# Altium schematic symbol library Schlib.SchLib: 18 symbols
Pins are listed as number, name and electrical type; pins without a type are passive.

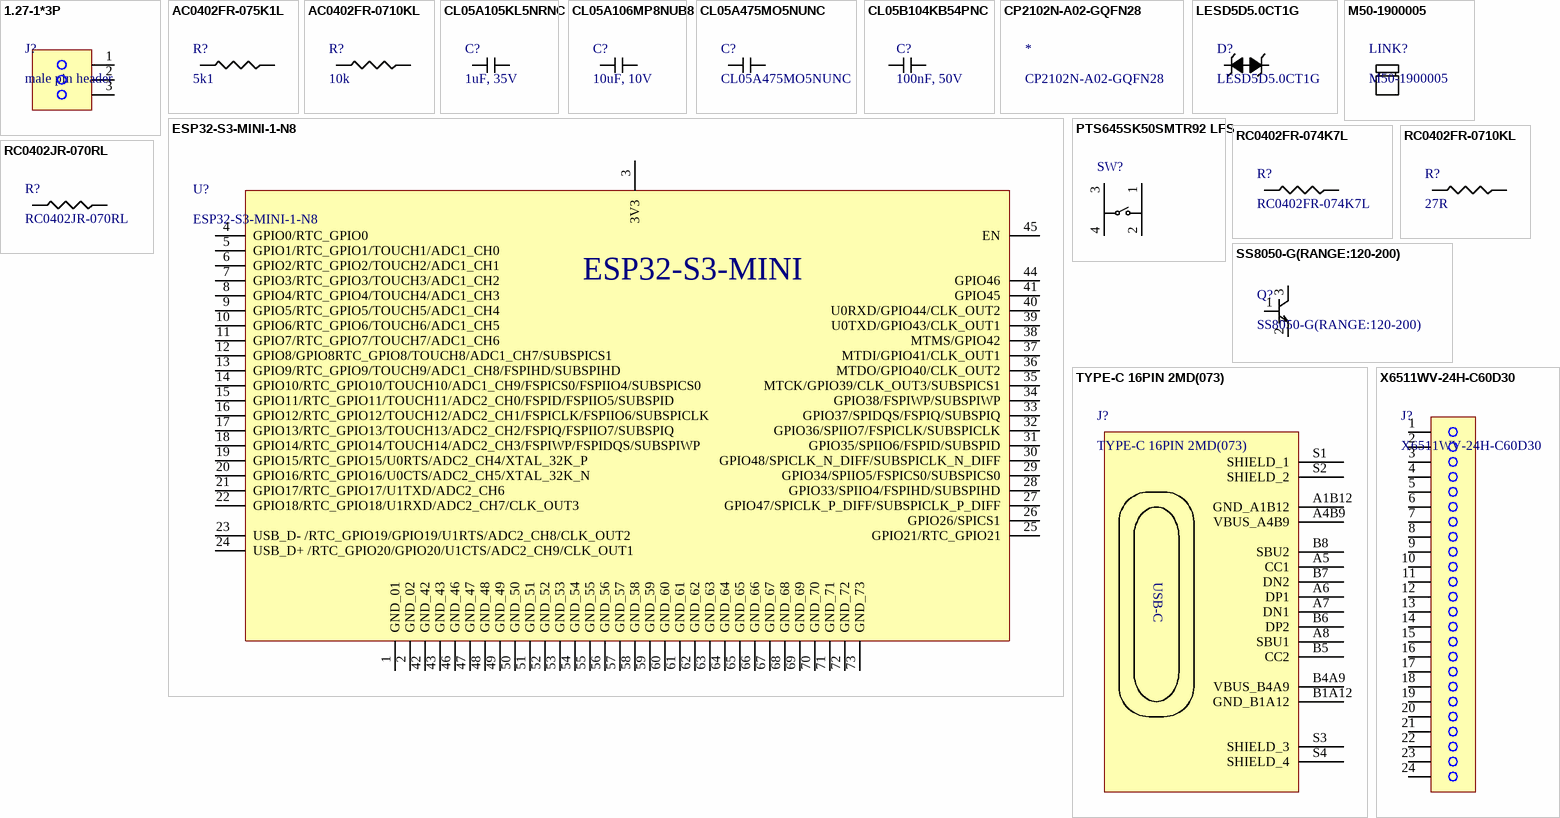
[diagram p0: symbols 1.27-1*3P to X6511WV-24H-C60D30]

## 1.27-1*3P
designator J?, comment male pin header
3A Direct Insert Policy 1mm 3P 3mm -55℃~+105℃ 2.3mm 1.27mm Single Row Black Brass 1x3P Plugin,P=1.27mm Pin Headers ROHS; Manufacturer: BOOMELE(Boom Precision Elec); Manufacturer Part Number: 1.27-1*3P; Supplier: LCSC; Supplier Part Number: C24980
pins: 1, 2, 3

## AC0402FR-075K1L
designator R?, comment 5k1
RES SMD 5.1K OHM 1% 1/16W 0402; Manufacturer: YAGEO; Manufacturer Part Number: AC0402FR-075K1L; Supplier: LCSC; Supplier Part Number: C144745; ComponentLink1Description: Datasheet; ComponentLink1URL: https://www.lcsc.com/datasheet/lcsc_datasheet_2304140030_YAGEO-AC0402FR-075K1L_C144745.pdf
pins: 1, 2

## AC0402FR-0710KL
designator R?, comment 10k
10 kOhms ±1% 0.063W, 1/16W Chip Resistor 0402 (1005 Metric) Automotive AEC-Q200, Moisture Resistant Thick Film; Manufacturer: YAGEO; Manufacturer Part Number: AC0402FR-0710KL; Supplier: LCSC; Supplier Part Number: C144807
pins: 1, 2

## CL05A105KL5NRNC
designator C?, comment 1uF, 35V
CAP CER 1UF 35V X5R 0402; Manufacturer: Samsung; Manufacturer Part Number: CL05A105KL5NRNC; ComponentLink1URL: https://datasheet.ciiva.com:443/pdfs/VipMasterIC/IC/SEMS/SEMS-S-A0008384515/SEMS-S-A0008872905-1.pdf?src-supplier=IHS+Markit; ComponentLink1Description: https://datasheet.ciiva.com:443/pdfs/VipMasterIC/IC/SEMS/SEMS-S-A0008384515/SEMS-S-A0008872905-1.pdf?src-supplier=IHS+Markit; ComponentLink2URL: http://www.samsungsem.com/kr/support/product-search/mlcc/CL05A105KL5NRNC.jsp?src-supplier=Digikey; ComponentLink2Description: http://www.samsungsem.com/kr/support/product-search/mlcc/CL05A105KL5NRNC.jsp?src-supplier=Digikey; Supplier: LCSC; Supplier Part Number: C307413
pins: 1, 2

## CL05A106MP8NUB8
designator C?, comment 10uF, 10V
CAP CER 10UF 10V X5R 0402; Manufacturer: Samsung; Manufacturer Part Number: CL05A106MP8NUB8; ComponentLink1URL: https://datasheet.ciiva.com:443/pdfs/VipMasterIC/IC/SEMS/SEMS-S-A0008521219/SEMS-S-A0008521325-1.pdf?src-supplier=IHS+Markit; ComponentLink1Description: https://datasheet.ciiva.com:443/pdfs/VipMasterIC/IC/SEMS/SEMS-S-A0008521219/SEMS-S-A0008521325-1.pdf?src-supplier=IHS+Markit; ComponentLink2URL: http://www.samsungsem.com/kr/support/product-search/mlcc/CL05A106MP8NUB8.jsp?src-supplier=Digikey; ComponentLink2Description: http://www.samsungsem.com/kr/support/product-search/mlcc/CL05A106MP8NUB8.jsp?src-supplier=Digikey; ComponentLink3URL: https://datasheet.octopart.com/CL05A106MP8NUB8-Samsung-Electro-Mechanics-datasheet-136460857.pdf?src-supplier=Future+Electronics; ComponentLink3Description: https://datasheet.octopart.com/CL05A106MP8NUB8-Samsung-Electro-Mechanics-datasheet-136460857.pdf?src-supplier=Future+Electronics; Supplier: LCSC; Supplier Part Number: C307415
pins: 1, 2

## CL05A475MO5NUNC
designator C?
CAP CER 4.7UF 16V X5R 0402; Manufacturer: Samsung Electro-Mechanics; Manufacturer Part Number: CL05A475MO5NUNC; Supplier: LCSC; Supplier Part Number: C318563; ComponentLink1Description: Datasheet; ComponentLink1URL: https://mm.digikey.com/Volume0/opasdata/d220001/medias/docus/2822/CL05A475MO5NUNC_Spec.pdf
pins: 1, 2

## CL05B104KB54PNC
designator C?, comment 100nF, 50V
CAP CER 0.1UF 50V X7R 0402; Manufacturer: Samsung; Manufacturer Part Number: CL05B104KB54PNC; ComponentLink1URL: https://datasheet.ciiva.com:443/pdfs/VipMasterIC/IC/SEMS/SEMS-S-A0006318249/SEMS-S-A0006320959-1.pdf?src-supplier=IHS+Markit; ComponentLink1Description: https://datasheet.ciiva.com:443/pdfs/VipMasterIC/IC/SEMS/SEMS-S-A0006318249/SEMS-S-A0006320959-1.pdf?src-supplier=IHS+Markit; ComponentLink2URL: https://datasheet.octopart.com/CL05B104KB54PNC-Samsung-datasheet-8326407.pdf?src-supplier=TME; ComponentLink2Description: https://datasheet.octopart.com/CL05B104KB54PNC-Samsung-datasheet-8326407.pdf?src-supplier=TME; Supplier: LCSC; Supplier Part Number: C307331
pins: 1, 2

## CP2102N-A02-GQFN28
designator *
Manufacturer: Silicon Labs; Manufacturer Part Number: CP2102N-A02-GQFN28; Supplier: LCSC; Supplier Part Number: C1550553; ComponentLink1Description: Datasheet; ComponentLink1URL: https://www.lcsc.com/datasheet/lcsc_datasheet_2107300130_SKYWORKS-SILICON-LABS-CP2102N-A02-GQFN28_C1550553.pdf

## ESP32-S3-MINI-1-N8
designator U?
SMD module, ESP32-S3FN8, 8 MB SPI flash, PCB antenna; Manufacturer: Espressif Systems; Supllier Part Number: C2913206; Manufacturer Part Number: ESP32-S3-MINI-1-N8; ComponentLink1URL: https://datasheet.octopart.com/ESP32-S3-MINI-1-N8-Espressif-Systems-datasheet-165560562.pdf?src-supplier=TME; ComponentLink1Description: https://datasheet.octopart.com/ESP32-S3-MINI-1-N8-Espressif-Systems-datasheet-165560562.pdf?src-supplier=TME; Supplier: LCSC
pins: 1 GND_01, 2 GND_02, 3 3V3, 4 GPIO0/RTC_GPIO0, 5 GPIO1/RTC_GPIO1/TOUCH1/ADC1_CH0, 6 GPIO2/RTC_GPIO2/TOUCH2/ADC1_CH1, 7 GPIO3/RTC_GPIO3/TOUCH3/ADC1_CH2, 8 GPIO4/RTC_GPIO4/TOUCH4/ADC1_CH3, 9 GPIO5/RTC_GPIO5/TOUCH5/ADC1_CH4, 10 GPIO6/RTC_GPIO6/TOUCH6/ADC1_CH5, 11 GPIO7/RTC_GPIO7/TOUCH7/ADC1_CH6, 12 GPIO8/GPIO8RTC_GPIO8/TOUCH8/ADC1_CH7/SUBSPICS1, 13 GPIO9/RTC_GPIO9/TOUCH9/ADC1_CH8/FSPIHD/SUBSPIHD, 14 GPIO10/RTC_GPIO10/TOUCH10/ADC1_CH9/FSPICS0/FSPIIO4/SUBSPICS0, 15 GPIO11/RTC_GPIO11/TOUCH11/ADC2_CH0/FSPID/FSPIIO5/SUBSPID, 16 GPIO12/RTC_GPIO12/TOUCH12/ADC2_CH1/FSPICLK/FSPIIO6/SUBSPICLK, 17 GPIO13/RTC_GPIO13/TOUCH13/ADC2_CH2/FSPIQ/FSPIIO7/SUBSPIQ, 18 GPIO14/RTC_GPIO14/TOUCH14/ADC2_CH3/FSPIWP/FSPIDQS/SUBSPIWP, 19 GPIO15/RTC_GPIO15/U0RTS/ADC2_CH4/XTAL_32K_P, 20 GPIO16/RTC_GPIO16/U0CTS/ADC2_CH5/XTAL_32K_N, 21 GPIO17/RTC_GPIO17/U1TXD/ADC2_CH6, 22 GPIO18/RTC_GPIO18/U1RXD/ADC2_CH7/CLK_OUT3, 23 USB_D- /RTC_GPIO19/GPIO19/U1RTS/ADC2_CH8/CLK_OUT2, 24 USB_D+ /RTC_GPIO20/GPIO20/U1CTS/ADC2_CH9/CLK_OUT1, 25 GPIO21/RTC_GPIO21, 26 GPIO26/SPICS1, 27 GPIO47/SPICLK_P_DIFF/SUBSPICLK_P_DIFF, 28 GPIO33/SPIIO4/FSPIHD/SUBSPIHD, 29 GPIO34/SPIIO5/FSPICS0/SUBSPICS0, 30 GPIO48/SPICLK_N_DIFF/SUBSPICLK_N_DIFF, 31 GPIO35/SPIIO6/FSPID/SUBSPID, 32 GPIO36/SPIIO7/FSPICLK/SUBSPICLK, 33 GPIO37/SPIDQS/FSPIQ/SUBSPIQ, 34 GPIO38/FSPIWP/SUBSPIWP, 35 MTCK/GPIO39/CLK_OUT3/SUBSPICS1, 36 MTDO/GPIO40/CLK_OUT2, 37 MTDI/GPIO41/CLK_OUT1, 38 MTMS/GPIO42, 39 U0TXD/GPIO43/CLK_OUT1, 40 U0RXD/GPIO44/CLK_OUT2, 41 GPIO45, 42 GND_42, 43 GND_43, 44 GPIO46, 45 EN, 46 GND_46, 47 GND_47, 48 GND_48, 49 GND_49, 50 GND_50, 51 GND_51, 52 GND_52, 53 GND_53, 54 GND_54, 55 GND_55, 56 GND_56, 57 GND_57, 58 GND_58, 59 GND_59, 60 GND_60, 61 GND_61, 62 GND_62, 63 GND_63, 64 GND_64, 65 GND_65, 66 GND_66, 67 GND_67, 68 GND_68, 69 GND_69, 70 GND_70, 71 GND_71, 72 GND_72, 73 GND_73
text: ESP32-S3-MINI

## LESD5D5.0CT1G
designator D?
9.4A 18.6V 5.6V Bidirectional 5V SOD-523 ESD and Surge Protection (TVS/ESD) ROHS; Manufacturer: LRC; Manufacturer Part Number: LESD5D5.0CT1G; Supplier: LCSC; Supplier Part Number: C383211; ComponentLink1Description: Datasheet; ComponentLink1URL: https://www.lcsc.com/datasheet/lcsc_datasheet_1912111437_LRC-LESD5D5-0CT1G_C383211.pdf
pins: 1, 2

## M50-1900005
designator LINK?
2 (1 x 2) Position Shunt Connector Black Closed Top 0.050" (1.27mm) Gold; Manufacturer: Harwin Inc.; Manufacturer Part Number: M50-1900005; Supplier: LCSC; Supplier Part Number: C6293276; ComponentLink1Description: Datasheet; ComponentLink1URL: https://www.lcsc.com/datasheet/lcsc_datasheet_2312100117_Harwin-M50-1900005_C6293276.pdf

## PTS645SK50SMTR92 LFS
designator SW?, comment Push Button  (value not drawn)
SWITCH TACTILE SPST-NO 0.05A 12V; Manufacturer: C&K; Manufacturer Part Number: PTS645SK50SMTR92 LFS; Supplier: LCSC; Supplier Part Number: C221872
pins: 1, 2, 3, 4

## RC0402FR-074K7L
designator R?
RES 4.7K OHM 1% 1/16W 0402; Manufacturer: YAGEO; Manufacturer Part Number: RC0402FR-074K7L; Supplier: LCSC; Supplier Part Number: C105871; ComponentLink1Description: Datasheet; ComponentLink1URL: https://www.lcsc.com/datasheet/lcsc_datasheet_2304140030_YAGEO-RC0402FR-074K7L_C105871.pdf
pins: 1, 2

## RC0402FR-0710KL
designator R?, comment 27R
RES 27 OHM 1% 1/16W 0402; Manufacturer: YAGEO; Manufacturer Part Number: RC0402FR-0727RL; ComponentLink1Description: datasheet; ComponentLink1URL: https://www.lcsc.com/datasheet/lcsc_datasheet_2304140030_YAGEO-RC0402FR-0727RL_C138021.pdf; Supplier: LCSC; Supplier Part Number: C138021
pins: 1, 2

## RC0402JR-070RL
designator R?
RES 0 OHM JUMPER 1/16W 0402; Manufacturer: YAGEO; Manufacturer Part Number: RC0402JR-070RL; Supplier: LCSC; Supplier Part Number: C60485; ComponentLink1Description: Datasheet; ComponentLink1URL: https://www.lcsc.com/datasheet/lcsc_datasheet_2304140030_YAGEO-RC0402JR-070RL_C60485.pdf
pins: 1, 2

## SS8050-G(RANGE:120-200)
designator Q?
NPN SOT-23 (BJT) 25V 300mW 120@100mA,1V 1.5A ROHS; Manufacturer: Jiangsu Changjing Electronics Technology; Manufacturer Part Number: SS8050-G(RANGE:120-200); Supplier: LCSC; Supplier Part Number: C164886; ComponentLink1Description: Datasheet; ComponentLink1URL: https://www.lcsc.com/datasheet/lcsc_datasheet_2304140030_Jiangsu-Changjing-Electronics-Technology-Co---Ltd--SS8050-G-RANGE-120-200_C164886.pdf
pins: 1, 2, 3

## TYPE-C 16PIN 2MD(073)
designator J?
5A 1 Horizontal attachment 16P Female -25℃~+85℃ Type-C SMD USB Connectors ROHS; Manufacturer: SHOU HAN; ComponentLink1Description: Datasheet; ComponentLink1URL: https://www.lcsc.com/datasheet/lcsc_datasheet_2111231930_SHOU-HAN-TYPE-C-16PIN-2MD-073_C2765186.pdf; Manufacturer Part Number: TYPE-C 16PIN 2MD(073); Supplier: LCSC; Supplier Part Number: C2765186
pins: A1B12 GND_A1B12, A4B9 VBUS_A4B9, A5 CC1, A6 DP1, A7 DN1, A8 SBU1, B1A12 GND_B1A12, B4A9 VBUS_B4A9, B5 CC2, B6 DP2, B7 DN2, B8 SBU2, S1 SHIELD_1, S2 SHIELD_2, S3 SHIELD_3, S4 SHIELD_4
text: USB-C

## X6511WV-24H-C60D30
designator J?
1x24P P=2.54mm Gold 250V 3A Policy Height=2.5mm 24P 260℃ -40℃~+105℃ 2.54mm Single Row Black Brass 2.54mm Plugin, Pin Headers ROHS; Manufacturer: XKB Connection; Manufacturer Part Number: X6511WV-24H-C60D30; Supplier: LCSC; Supplier Part Number: C725956
pins: 1, 2, 3, 4, 5, 6, 7, 8, 9, 10, 11, 12, 13, 14, 15, 16, 17, 18, 19, 20, 21, 22, 23, 24